# Altium footprint library STM32.PcbLib: 1 footprints
Each footprint in its own frame and in the unit in brackets; x right, y up, seen from the top. Pads: shape width x height; smd on the part's side, far side on the other; paste and mask are expansions set on the pad; w line width, h text height; cw(c..) or ccw(c..) is an arc to the next point about the centre after c.
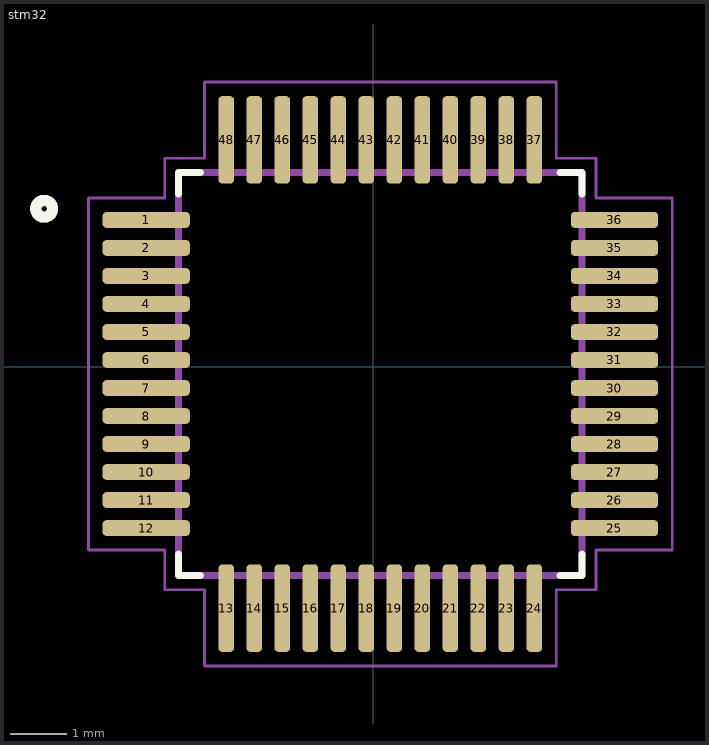
[diagram p0: the footprint, top view; thin cyan lines are the x and y axes]

## stm32 [mm]
pads (48):
  rrect50% 1.56x0.28 smd: 1(-4.053,2.623) 2(-4.053,2.123) 3(-4.053,1.623) 4(-4.053,1.123) 5(-4.053,0.623) 6(-4.053,0.123) 7(-4.053,-0.377) 8(-4.053,-0.877) 9(-4.053,-1.377) 10(-4.053,-1.877) 11(-4.053,-2.377) 12(-4.053,-2.877) 25(4.307,-2.877) 26(4.307,-2.377) 27(4.307,-1.877) 28(4.307,-1.377) 29(4.307,-0.877) 30(4.307,-0.377) 31(4.307,0.123) 32(4.307,0.623) 33(4.307,1.123) 34(4.307,1.623) 35(4.307,2.123) 36(4.307,2.623)
  rrect50% 0.28x1.56 smd: 13(-2.623,-4.307) 14(-2.123,-4.307) 15(-1.623,-4.307) 16(-1.123,-4.307) 17(-0.623,-4.307) 18(-0.123,-4.307) 19(0.377,-4.307) 20(0.877,-4.307) 21(1.377,-4.307) 22(1.877,-4.307) 23(2.377,-4.307) 24(2.877,-4.307) 37(2.877,4.053) 38(2.377,4.053) 39(1.877,4.053) 40(1.377,4.053) 41(0.877,4.053) 42(0.377,4.053) 43(-0.123,4.053) 44(-0.623,4.053) 45(-1.123,4.053) 46(-1.623,4.053) 47(-2.123,4.053) 48(-2.623,4.053)
Top Overlay:
  circle w0.2: c-5.873,2.823 r0.15
  lines w0.127: -3.473,-3.337 -3.473,-3.727 -3.083,-3.727 ; -3.473,3.083 -3.473,3.473 -3.083,3.473 ; 3.337,-3.727 3.727,-3.727 3.727,-3.337 ; 3.337,3.473 3.727,3.473 3.727,3.083
Mechanical 13:
  circle w0.2: c-5.873,2.823 r0.15
  lines w0.127: -3.473,-3.727 -3.473,3.473 3.727,3.473 3.727,-3.727 -3.473,-3.727
Mechanical 15:
  lines w0.05: -5.083,-3.267 -5.083,3.013 -3.723,3.013 -3.723,3.723 -3.013,3.723 -3.013,5.083 3.267,5.083 3.267,3.723 3.977,3.723 3.977,3.013 5.337,3.013 5.337,-3.267 3.977,-3.267 3.977,-3.977 3.267,-3.977 3.267,-5.337 -3.013,-5.337 -3.013,-3.977 -3.723,-3.977 -3.723,-3.267 -5.083,-3.267
3D body "step_temp.STEP": height 1.6, standoff 0, extent -4.373,-4.627 4.627,4.373